# Altium schematic symbol library MAX14661.Schlib: 1 symbol
Pins are listed as number, name and electrical type; pins without a type are passive.

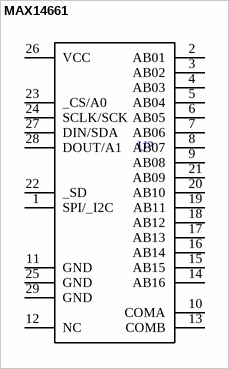
[diagram p0: symbol MAX14661]

## MAX14661
designator U?  (value not drawn)
Analog Mux, 16:2, Beyond the Rails, MAX14661
pins: 1 SPI/_I2C, 2 AB01, 3 AB02, 4 AB03, 5 AB04, 6 AB05, 7 AB06, 8 AB07, 9 AB08, 10 COMA, 11 GND, 12 NC, 13 COMB, 14 AB16, 15 AB15, 16 AB14, 17 AB13, 18 AB12, 19 AB11, 20 AB10, 21 AB09, 22 _SD, 23 _CS/A0, 24 SCLK/SCK, 25 GND, 26 VCC, 27 DIN/SDA, 28 DOUT/A1, 29 GND